# EAGLE library part 1-794681-6 (library con-amp1)
Micro MATE-N-LOK Connectors grid 1.5mm Dual Row Through Hole Vertical Metal Through Hole Holddowns Source: ENG_CD_794681_E.pdf
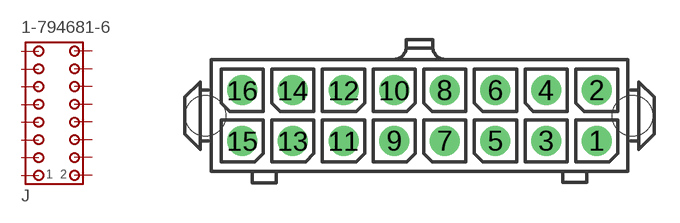
[diagram p155: symbol with the pads of 1-794681-6; footprint 1-794681-6]

Designator prefix J

## 1-794681-6  [1-794681-6]
1  1  pas
2  2  pas
3  3  pas
4  4  pas
5  5  pas
6  6  pas
7  7  pas
8  8  pas
9  9  pas
10  10  pas
11  11  pas
12  12  pas
13  13  pas
14  14  pas
15  15  pas
16  16  pas

## Footprint 1-794681-6 (pad centres in mm)
Micro MATE-N-LOK Connectors grid 1.5mm Dual Row Through Hole Vertical Metal Through Hole Holddowns Source: ENG_CD_794681_E.pdf
drill 1 pad 1.778 round: 1 10.5,-1.5; 2 10.5,1.5; 3 7.5,-1.5; 4 7.5,1.5; 5 4.5,-1.5; 6 4.5,1.5; 7 1.5,-1.5; 8 1.5,1.5; 9 -1.5,-1.5; 10 -1.5,1.5; 11 -4.5,-1.5; 12 -4.5,1.5; 13 -7.5,-1.5; 14 -7.5,1.5; 15 -10.5,-1.5; 16 -10.5,1.5
hole 2.4 at 12.63,0
hole 2.4 at -12.67,0